# Altium footprint library Components - 22.09.24 - 16.58.PcbLib: 4 footprints
Each footprint in its own frame and in the unit in brackets; x right, y up, seen from the top. Pads: shape width x height; smd on the part's side, far side on the other; paste and mask are expansions set on the pad; w line width, h text height; cw(c..) or ccw(c..) is an arc to the next point about the centre after c.
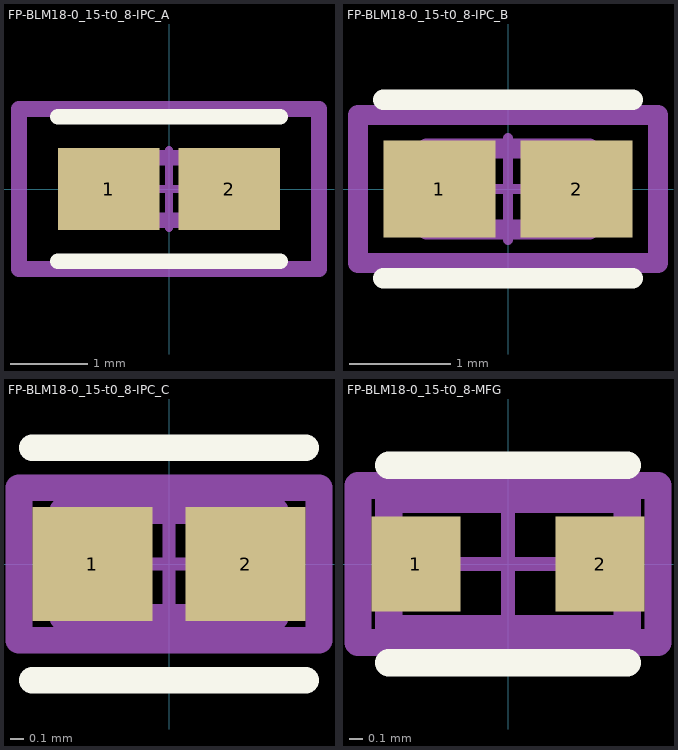
[diagram p0: the footprints below, top view; thin cyan lines are the x and y axes]

## FP-BLM18-0_15-t0_8-IPC_A [mm]
pads (2):
  rect 1.306x1.058 smd paste+0 mask+0: 1(-0.776,0) 2(0.776,0)
Top Overlay:
  lines w0.2: -1.429,-0.929 1.429,-0.929 ; -1.429,0.929 1.429,0.929
Top Assembly:
  lines w0.2: -1.929,-1.029 1.929,-1.029 1.929,1.029 -1.929,1.029 -1.929,-1.029
  text ".Designator" at 0,0.188 h1
Top 3D Body:
  lines w0.2: -0.8,-0.4 0.8,-0.4 0.8,0.4 -0.8,0.4 -0.8,-0.4
Top Courtyard:
  lines w0.2: -1.929,-1.029 1.929,-1.029 1.929,1.029 -1.929,1.029 -1.929,-1.029
Top Component Center:
  lines w0.1: -0.5,0 0.5,0 ; 0,-0.5 0,0.5
3D body "FBead_Murata_BLM18EG221SN1D_eec.STEP": height 0.25, standoff 0, extent -1.929,-1.029 1.929,1.029

## FP-BLM18-0_15-t0_8-IPC_B [mm]
pads (2):
  rect 1.106x0.958 smd paste+0 mask+0: 1(-0.676,0) 2(0.676,0)
Top Overlay:
  lines w0.2: -1.229,-0.879 1.229,-0.879 ; -1.229,0.879 1.229,0.879
Top Assembly:
  lines w0.2: -1.479,-0.729 1.479,-0.729 1.479,0.729 -1.479,0.729 -1.479,-0.729
  text ".Designator" at 0,0.188 h1
Top 3D Body:
  lines w0.2: -0.8,-0.4 0.8,-0.4 0.8,0.4 -0.8,0.4 -0.8,-0.4
Top Courtyard:
  lines w0.2: -1.479,-0.729 1.479,-0.729 1.479,0.729 -1.479,0.729 -1.479,-0.729
Top Component Center:
  lines w0.1: -0.5,0 0.5,0 ; 0,-0.5 0,0.5
3D body "FBead_Murata_BLM18EG221SN1D_eec.STEP": height 0.25, standoff 0, extent -1.479,-0.729 1.479,0.729

## FP-BLM18-0_15-t0_8-IPC_C [mm]
pads (2):
  rect 0.906x0.858 smd paste+0 mask+0: 1(-0.576,0) 2(0.576,0)
Top Overlay:
  lines w0.2: -1.029,-0.875 1.029,-0.875 ; -1.029,0.875 1.029,0.875
Top Assembly:
  lines w0.2: -1.129,-0.575 1.129,-0.575 1.129,0.575 -1.129,0.575 -1.129,-0.575
  text ".Designator" at 0,0.188 h1
Top 3D Body:
  lines w0.2: -0.8,-0.4 0.8,-0.4 0.8,0.4 -0.8,0.4 -0.8,-0.4
Top Courtyard:
  lines w0.2: -1.129,-0.575 1.129,-0.575 1.129,0.575 -1.129,0.575 -1.129,-0.575
Top Component Center:
  lines w0.1: -0.5,0 0.5,0 ; 0,-0.5 0,0.5
3D body "FBead_Murata_BLM18EG221SN1D_eec.STEP": height 0.25, standoff 0, extent -1.129,-0.575 1.129,0.575

## FP-BLM18-0_15-t0_8-MFG [mm]
pads (2):
  rect 0.65x0.7 smd paste+0 mask+0: 1(-0.675,0) 2(0.675,0)
Top Overlay:
  lines w0.2: -0.875,-0.725 0.875,-0.725 ; -0.875,0.725 0.875,0.725
Top Assembly:
  lines w0.2: -1.1,-0.575 1.1,-0.575 1.1,0.575 -1.1,0.575 -1.1,-0.575
  text ".Designator" at 0,0.188 h1
Top 3D Body:
  lines w0.2: -0.875,-0.475 0.875,-0.475 0.875,0.475 -0.875,0.475 -0.875,-0.475
Top Courtyard:
  lines w0.2: -1.1,-0.575 1.1,-0.575 1.1,0.575 -1.1,0.575 -1.1,-0.575
Top Component Center:
  lines w0.1: -0.5,0 0.5,0 ; 0,-0.5 0,0.5
3D body "FBead_Murata_BLM18EG221SN1D_eec.STEP": height 0.25, standoff 0, extent -1.1,-0.575 1.1,0.575